# Altium footprint library PCB_lib.PcbLib: 29 footprints (part 1 of 2)
Each footprint in its own frame and in the unit in brackets; x right, y up, seen from the top. Pads: shape width x height; smd on the part's side, far side on the other; paste and mask are expansions set on the pad; w line width, h text height; cw(c..) or ccw(c..) is an arc to the next point about the centre after c.
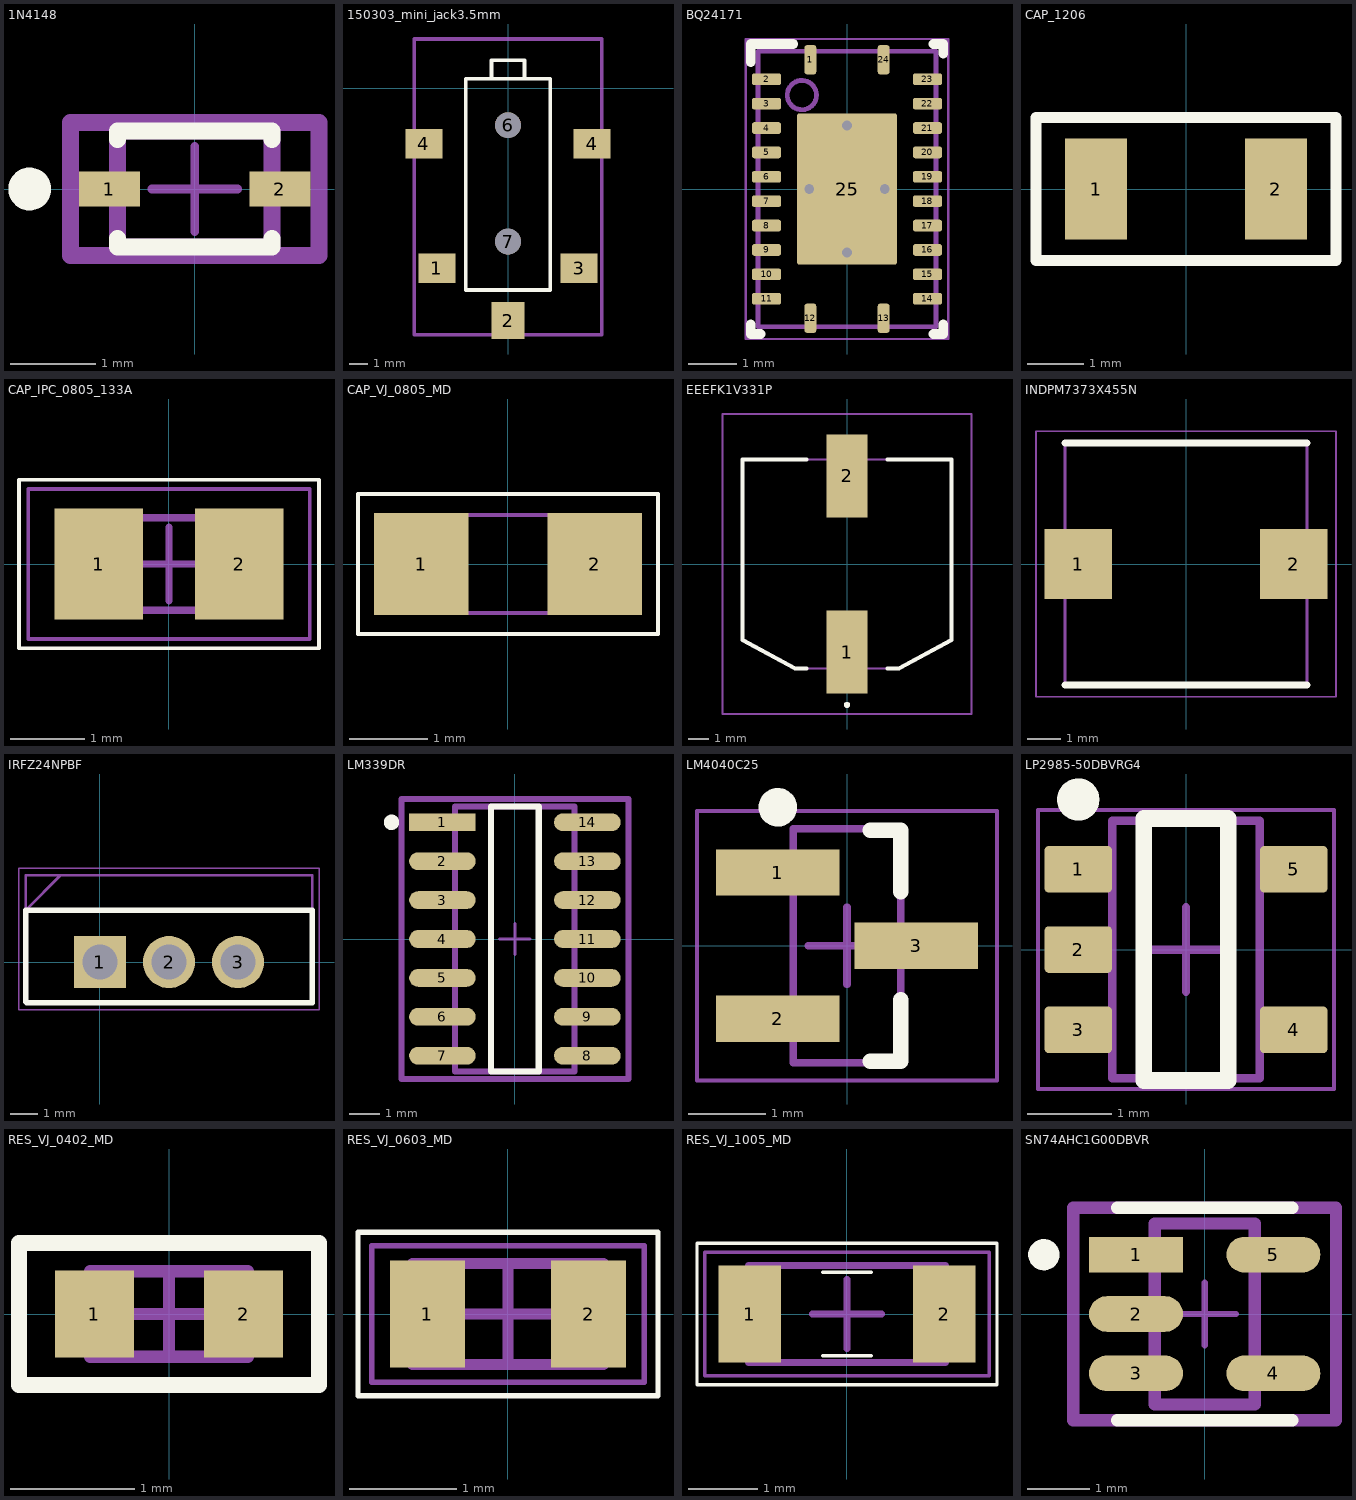
[diagram p0: the footprints below, top view; thin cyan lines are the x and y axes]

## 1N4148 [mm]
pads (2):
  rect 0.71x0.403 smd paste+0 mask+0: 1(-0.995,0) 2(0.995,0)
Top Overlay:
  circle w0.25: c-1.925,0 r0.125
  lines w0.2: -0.9,-0.577 -0.9,-0.675 0.9,-0.675 0.9,-0.577 ; -0.9,0.577 -0.9,0.675 0.9,0.675 0.9,0.577
Top Assembly:
  lines w0.2: -1.45,-0.775 1.45,-0.775 1.45,0.775 -1.45,0.775 -1.45,-0.775
  text ".Designator" at 0,0.188 h1
Top 3D Body:
  lines w0.2: -0.9,-0.675 0.9,-0.675 0.9,0.675 -0.9,0.675 -0.9,-0.675
Top Courtyard:
  lines w0.2: -1.45,-0.775 1.45,-0.775 1.45,0.775 -1.45,0.775 -1.45,-0.775
Top Component Center:
  lines w0.1: -0.5,0 0.5,0 ; 0,-0.5 0,0.5
3D body "Diode_Diodes_Inc_1N4148WSF-7_eec.STEP": height 0.25, standoff 0, extent -1.45,-0.775 1.45,0.775

## 150303_mini_jack3.5mm [mm]
pads (7):
  rect 2x1.6 smd mask+0.3: 1(-3.85,-9.75) 3(3.85,-9.75) 4(-4.55,-3) 4(4.55,-3)
  rect 1.8x2 smd mask+0.3: 2(0,-12.573)
  round 1.4 hole 1.4 mask+0: 6(0,-2) 7(0,-8.3)
Top Overlay:
  lines w0.2: -2.286,-10.922 2.286,-10.922 2.286,0.508 -2.286,0.508 -2.286,-10.922 ; -0.889,0.508 0.889,0.508 0.889,1.524 -0.889,1.524 -0.889,0.508
Mechanical 1:
  lines w0.2: -5.08,-13.335 5.08,-13.335 5.08,2.667 -5.08,2.667 -5.08,-13.335
Designator:
  text ".Designator" at -2.499,-5.374 h0.5
3D body "1503_03.stp": height 6, standoff -1.2, extent -5.1,-13.3 5.1,2.7

## BQ24171 [mm] "QFN, 24-Leads, Body 5.5x3.5mm, Pitch 0.5mm, Thermal Pad 3.1x2.05mm, TI Recommended"
height 1
pads (25):
  rrect42% 0.24x0.6 smd: 1(-0.75,2.65) 12(-0.75,-2.65) 13(0.75,-2.65) 24(0.75,2.65)
  rrect42% 0.6x0.24 smd: 2(-1.65,2.25) 3(-1.65,1.75) 4(-1.65,1.25) 5(-1.65,0.75) 6(-1.65,0.25) 7(-1.65,-0.25) 8(-1.65,-0.75) 9(-1.65,-1.25) 10(-1.65,-1.75) 11(-1.65,-2.25) 14(1.65,-2.25) 15(1.65,-1.75) 16(1.65,-1.25) 17(1.65,-0.75) 18(1.65,-0.25) 19(1.65,0.25) 20(1.65,0.75) 21(1.65,1.25) 22(1.65,1.75) 23(1.65,2.25)
  rrect5% 2.05x3.1 smd paste-1.025: 25(0,0)
via 0.775,0 diameter 0.5 hole 0.2
via 0,1.3 diameter 0.5 hole 0.2
via -0.775,0 diameter 0.5 hole 0.2
via 0,-1.3 diameter 0.5 hole 0.2
Top Overlay:
  lines w0.2: -1.975,-2.775 -1.975,-2.975 -1.775,-2.975 ; -1.975,2.6 -1.975,2.975 -1.1,2.975 ; 1.775,-2.975 1.975,-2.975 1.975,-2.775 ; 1.775,2.975 1.975,2.975 1.975,2.775
Top Paste:
  rectangle: 0.1,-1.428 1.017,-0.1
  region: -0.1,-0.1 -1.017,-0.1 -1.017,-1.428 -0.1,-1.428
  region: -0.1,1.428 -1.017,1.428 -1.017,0.1 -0.1,0.1
  rectangle: 0.1,0.1 1.017,1.428
Mechanical 1:
  text ".Designator" at -1.397,-0.635 h0.76
Top 3D Body:
  circle w0.1: c-0.925,1.925 r0.3
  lines w0.1: -1.825,-2.825 1.825,-2.825 1.825,2.825 -1.825,2.825 -1.825,-2.825
Top Courtyard:
  lines w0.05: -2.075,-3.075 -2.075,3.075 2.075,3.075 2.075,-3.075 -2.075,-3.075
  lines w0.1: -0.5,0 0.5,0 ; 0,-0.5 0,0.5
3D body: height 1.01, standoff 0.5, extent -1.224,1.626 -0.626,2.224
3D body: height 1, standoff 0, extent -1.825,-2.825 1.825,2.825

## CAP_1206 [mm]
pads (2):
  rect 1.1x1.8 smd: 1(-1.6,0) 2(1.6,0)
Top Overlay:
  lines w0.2: -2.667,-1.27 2.667,-1.27 2.667,1.27 -2.667,1.27 -2.667,-1.27
Designator:
  text ".Designator" at -4.998,-0.333 h1
3D body "GRM31C5C1E474JE01L.stp": height 1.8, standoff 0, extent -1.6,-0.8 1.6,0.8

## CAP_IPC_0805_133A [mm]
height 1.33
pads (2):
  rect 1.2x1.5 smd: 1(-0.95,0) 2(0.95,0)
Top Overlay:
  lines w0.05: -2.032,-1.143 2.032,-1.143 2.032,1.143 -2.032,1.143 -2.032,-1.143
Top 3D Body:
  lines w0.1: -1.1,-0.625 -1.1,0.625 1.1,0.625 1.1,-0.625 -1.1,-0.625
Top Courtyard:
  lines w0.05: -1.905,-1.016 -1.905,1.016 1.905,1.016 1.905,-1.016 -1.905,-1.016
  lines w0.1: -0.5,0 0.5,0 ; 0,-0.5 0,0.5
3D body "CAP_IPC_0805_133A.step": height 1.33, standoff 0, extent -1.1,-0.625 1.1,0.625

## CAP_VJ_0805_MD [mm]
pads (2):
  rect 1.2x1.3 smd: 1(-1.1,0) 2(1.1,0)
Top Overlay:
  lines w0.05: -1.905,-0.889 1.905,-0.889 1.905,0.889 -1.905,0.889 -1.905,-0.889
Mechanical 1:
  lines w0.05: -1,-0.625 1,-0.625 1,0.625 -1,0.625 -1,-0.625
3D body: height 1.45, standoff 0, extent -1.025,-0.65 1.025,0.65

## EEEFK1V331P [mm]
pads (2):
  rect 2x4.1 smd: 1(0,-4.35) 2(0,4.35)
Top Overlay:
  lines w0.2: -2,-5.15 -2.575,-5.15 -5.15,-3.75 -5.15,5.15 -2,5.15 ; 2,-5.15 2.575,-5.15 5.15,-3.75 5.15,5.15 2,5.15 ; 0,-7 cw(c0,-6.95) 0,-6.9 ; 0,-7 ccw(c0,-6.95) 0,-6.9 ; 0,-7 cw(c0,-6.95) 0,-6.9
Top 3D Body:
  lines w0.1: -5.15,-3.75 -5.15,5.15 5.15,5.15 5.15,-3.75 2.575,-5.15 -2.575,-5.15 -5.15,-3.75
Top Courtyard:
  lines w0.1: -6.15,-7.4 6.15,-7.4 6.15,7.4 -6.15,7.4 -6.15,-7.4
3D body "EEEFK1E471P.stp": height 10.2, standoff 0, extent -5.15,-5.85 5.15,5.85

## INDPM7373X455N [mm]
pads (2):
  rect 2.05x2.1 smd: 1(-3.25,0) 2(3.25,0)
Top Overlay:
  lines w0.2: -3.65,-3.65 3.65,-3.65 ; -3.65,3.65 3.65,3.65
Top Courtyard:
  lines w0.1: -3.65,-3.65 -3.65,3.65 3.65,3.65 3.65,-3.65 -3.65,-3.65
Bottom Assembly:
  lines w0.05: -4.525,-4 -4.525,4 4.525,4 4.525,-4 -4.525,-4
3D body "46153C.stp": height 4.55, standoff 0, extent -3.65,-3.65 3.65,3.65

## IRFZ24NPBF [mm]
pads (3):
  rect 1.92x1.92 / inner round 1.92 / far side rect 1.92x1.92 hole 1.28: 1(0,0)
  round 1.92 hole 1.28: 2(2.54,0) 3(5.08,0)
Top Overlay:
  lines w0.2: -2.73,-1.461 -2.73,0 -2.73,1.905 7.81,1.905 7.81,-1.495 -2.696,-1.495 -2.73,-1.461
Top Courtyard:
  lines w0.1: -2.73,1.925 -1.46,3.195 ; -2.73,-1.495 7.81,-1.495 7.81,3.195 -2.73,3.195 -2.73,-1.495
Bottom Assembly:
  lines w0.05: -2.98,-1.745 8.06,-1.745 8.06,3.445 -2.98,3.445 -2.98,-1.745
3D body "IRFZ24NPBF.stp": height 18.84, standoff -17.51, extent -2.668,-1.515 7.748,3.175

## LM339DR [mm]
pads (14):
  rect 2.174x0.582 smd paste+0 mask+0: 1(-2.366,3.81)
  rrect100% 2.174x0.582 smd paste+0 mask+0: 2(-2.366,2.54) 3(-2.366,1.27) 4(-2.366,0) 5(-2.366,-1.27) 6(-2.366,-2.54) 7(-2.366,-3.81) 8(2.366,-3.81) 9(2.366,-2.54) 10(2.366,-1.27) 11(2.366,0) 12(2.366,1.27) 13(2.366,2.54) 14(2.366,3.81)
Top Overlay:
  circle w0.25: c-4.028,3.81 r0.125
  lines w0.2: -0.779,-4.325 -0.779,4.325 0.779,4.325 0.779,-4.325 -0.779,-4.325
Top Assembly:
  lines w0.2: -3.703,-4.575 -3.703,4.575 3.703,4.575 3.703,-4.575 -3.703,-4.575
  text ".Designator" at 0,0.188 h1
Top 3D Body:
  lines w0.2: -1.95,-4.325 -1.95,4.325 1.95,4.325 1.95,-4.325 -1.95,-4.325
Top Courtyard:
  lines w0.2: -3.703,-4.575 -3.703,4.575 3.703,4.575 3.703,-4.575 -3.703,-4.575
Top Component Center:
  lines w0.1: -0.5,0 0.5,0 ; 0,-0.5 0,0.5
3D body "IC_Texas_Instruments_LM339DR_eec.STEP": height 0.25, standoff 0, extent -3.703,-4.575 3.703,4.575

## LM4040C25 [mm] "SOT23, 3-Leads, Body 2.92x1.3 mm, Pitch 0.95 mm, IPC Medium Density"
height 1.12
pads (3):
  rect 1.6x0.6 smd: 1(-0.9,0.95) 2(-0.9,-0.95) 3(0.9,0)
Top Overlay:
  circle w0.25: c-0.9,1.8 r0.125
  lines w0.2: 0.3,-1.5 0.7,-1.5 0.7,-0.7 ; 0.3,1.5 0.7,1.5 0.7,0.7
Top 3D Body:
  lines w0.1: -0.7,-1.52 -0.7,1.52 0.7,1.52 0.7,-1.52 -0.7,-1.52
Top Courtyard:
  lines w0.05: -1.95,-1.75 -1.95,1.75 1.95,1.75 1.95,-1.75 -1.95,-1.75
  lines w0.1: -0.5,0 0.5,0 ; 0,-0.5 0,0.5
3D body: height 1.12, standoff 0.01, extent -0.7,-1.52 0.7,1.52

## LP2985-50DBVRG4 [mm] "SOT23, 5-Leads, Body 3.05x1.75mm, Pitch 0.95mm, IPC High Density"
height 1.45
pads (5):
  rrect18% 0.8x0.55 smd: 1(-1.275,0.95) 2(-1.275,0) 3(-1.275,-0.95) 4(1.275,-0.95) 5(1.275,0.95)
Top Overlay:
  circle w0.25: c-1.275,1.775 r0.125
  lines w0.2: -0.5,-1.55 -0.5,1.55 0.5,1.55 0.5,-1.55 -0.5,-1.55
Mechanical 1:
  text ".Designator" at -0.635,-0.254 h0.4
Top 3D Body:
  lines w0.1: -0.875,-1.525 0.875,-1.525 0.875,1.525 -0.875,1.525 -0.875,-1.525
Top Courtyard:
  lines w0.05: -1.75,-1.65 1.75,-1.65 1.75,1.65 -1.75,1.65 -1.75,-1.65
  lines w0.1: -0.5,0 0.5,0 ; 0,-0.5 0,0.5
3D body "DBV0005AaksMF05A.stp": height 1.08, standoff -0.01, extent -1.422,-1.461 1.422,1.46

## RES_VJ_0402_MD [mm] "Chip Resistor, 2-Leads, Body 1,07x0,56mm, IPC Medium Density"
height 0.84
pads (2):
  rect 0.635x0.7 smd: 1(-0.6,0) 2(0.6,0)
Top Overlay:
  lines w0.127: -1.206,-0.572 1.206,-0.572 1.206,0.572 -1.206,0.572 -1.206,-0.572
Top 3D Body:
  lines w0.1: -0.635,-0.345 0.635,-0.345 0.635,0.345 -0.635,0.345 -0.635,-0.345
Top Courtyard:
  lines w0.1: -0.345,0 0.345,0 ; 0,-0.345 0,0.345
3D body "RES_VJ_0402_MD.step": height 0.84, standoff 0, extent -0.635,-0.345 0.635,0.345

## RES_VJ_0603_MD [mm]
height 0.51
pads (2):
  rect 0.7x1 smd: 1(-0.75,0) 2(0.75,0)
Top Overlay:
  lines w0.05: -1.397,-0.762 1.397,-0.762 1.397,0.762 -1.397,0.762 -1.397,-0.762
Top 3D Body:
  lines w0.1: -0.89,-0.47 0.89,-0.47 0.89,0.47 -0.89,0.47 -0.89,-0.47
Top Courtyard:
  lines w0.05: -1.27,-0.635 1.27,-0.635 1.27,0.635 -1.27,0.635 -1.27,-0.635
  lines w0.1: -0.47,0 0.47,0 ; 0,-0.47 0,0.47
3D body: height 0.51, standoff 0, extent 0.59,-0.47 0.89,0.47
3D body: height 0.51, standoff 0, extent -0.89,-0.47 -0.59,0.47
3D body: height 0.51, standoff 0, extent -0.59,-0.47 0.59,0.47

## RES_VJ_1005_MD [mm]
height 0.84
pads (2):
  rect 0.9x1.4 smd: 1(-1.4,0) 2(1.4,0)
Top Overlay:
  lines w0.05: -0.35,-0.6 0.35,-0.6 ; -0.35,0.6 0.35,0.6 ; -2.159,-1.016 2.159,-1.016 2.159,1.016 -2.159,1.016 -2.159,-1.016
Top 3D Body:
  lines w0.1: -1.42,-0.7 -1.42,0.7 1.42,0.7 1.42,-0.7 -1.42,-0.7
Top Courtyard:
  lines w0.05: -2.05,-0.889 -2.05,0.889 2.05,0.889 2.05,-0.889 -2.05,-0.889
  lines w0.1: -0.5,0 0.5,0 ; 0,-0.5 0,0.5
3D body: height 0.84, standoff 0, extent -1.04,-0.7 1.04,0.7
3D body: height 0.84, standoff 0, extent -1.42,-0.7 -1.04,0.7
3D body: height 0.84, standoff 0, extent 1.04,-0.7 1.42,0.7

## SN74AHC1G00DBVR [mm]
pads (5):
  rect 1.505x0.572 smd paste+0 mask+0: 1(-1.1,0.95)
  rrect100% 1.505x0.572 smd paste+0 mask+0: 2(-1.1,0) 3(-1.1,-0.95) 4(1.1,-0.95) 5(1.1,0.95)
Top Overlay:
  circle w0.25: c-2.578,0.95 r0.125
  lines w0.2: -1.4,-1.7 1.4,-1.7 ; -1.4,1.7 1.4,1.7
Top Assembly:
  lines w0.2: -2.103,-1.7 -2.103,1.7 2.103,1.7 2.103,-1.7 -2.103,-1.7
  text ".Designator" at 0,-0.001 h1
Top 3D Body:
  lines w0.2: -0.8,-1.45 -0.8,1.45 0.8,1.45 0.8,-1.45 -0.8,-1.45
Top Courtyard:
  lines w0.2: -2.103,-1.7 -2.103,1.7 2.103,1.7 2.103,-1.7 -2.103,-1.7
Top Component Center:
  lines w0.1: -0.5,0 0.5,0 ; 0,-0.5 0,0.5
3D body "IC_Texas_Instruments_SN74AHC1G32DBVR_eec.STEP": height 0.25, standoff 0, extent -2.103,-1.7 2.103,1.7